# Altium footprint library BV100011_UniversalSlave.PcbLib: 72 footprints (part 4 of 5)
Each footprint in its own frame and in the unit in brackets; x right, y up, seen from the top. Pads: shape width x height; smd on the part's side, far side on the other; paste and mask are expansions set on the pad; w line width, h text height; cw(c..) or ccw(c..) is an arc to the next point about the centre after c.
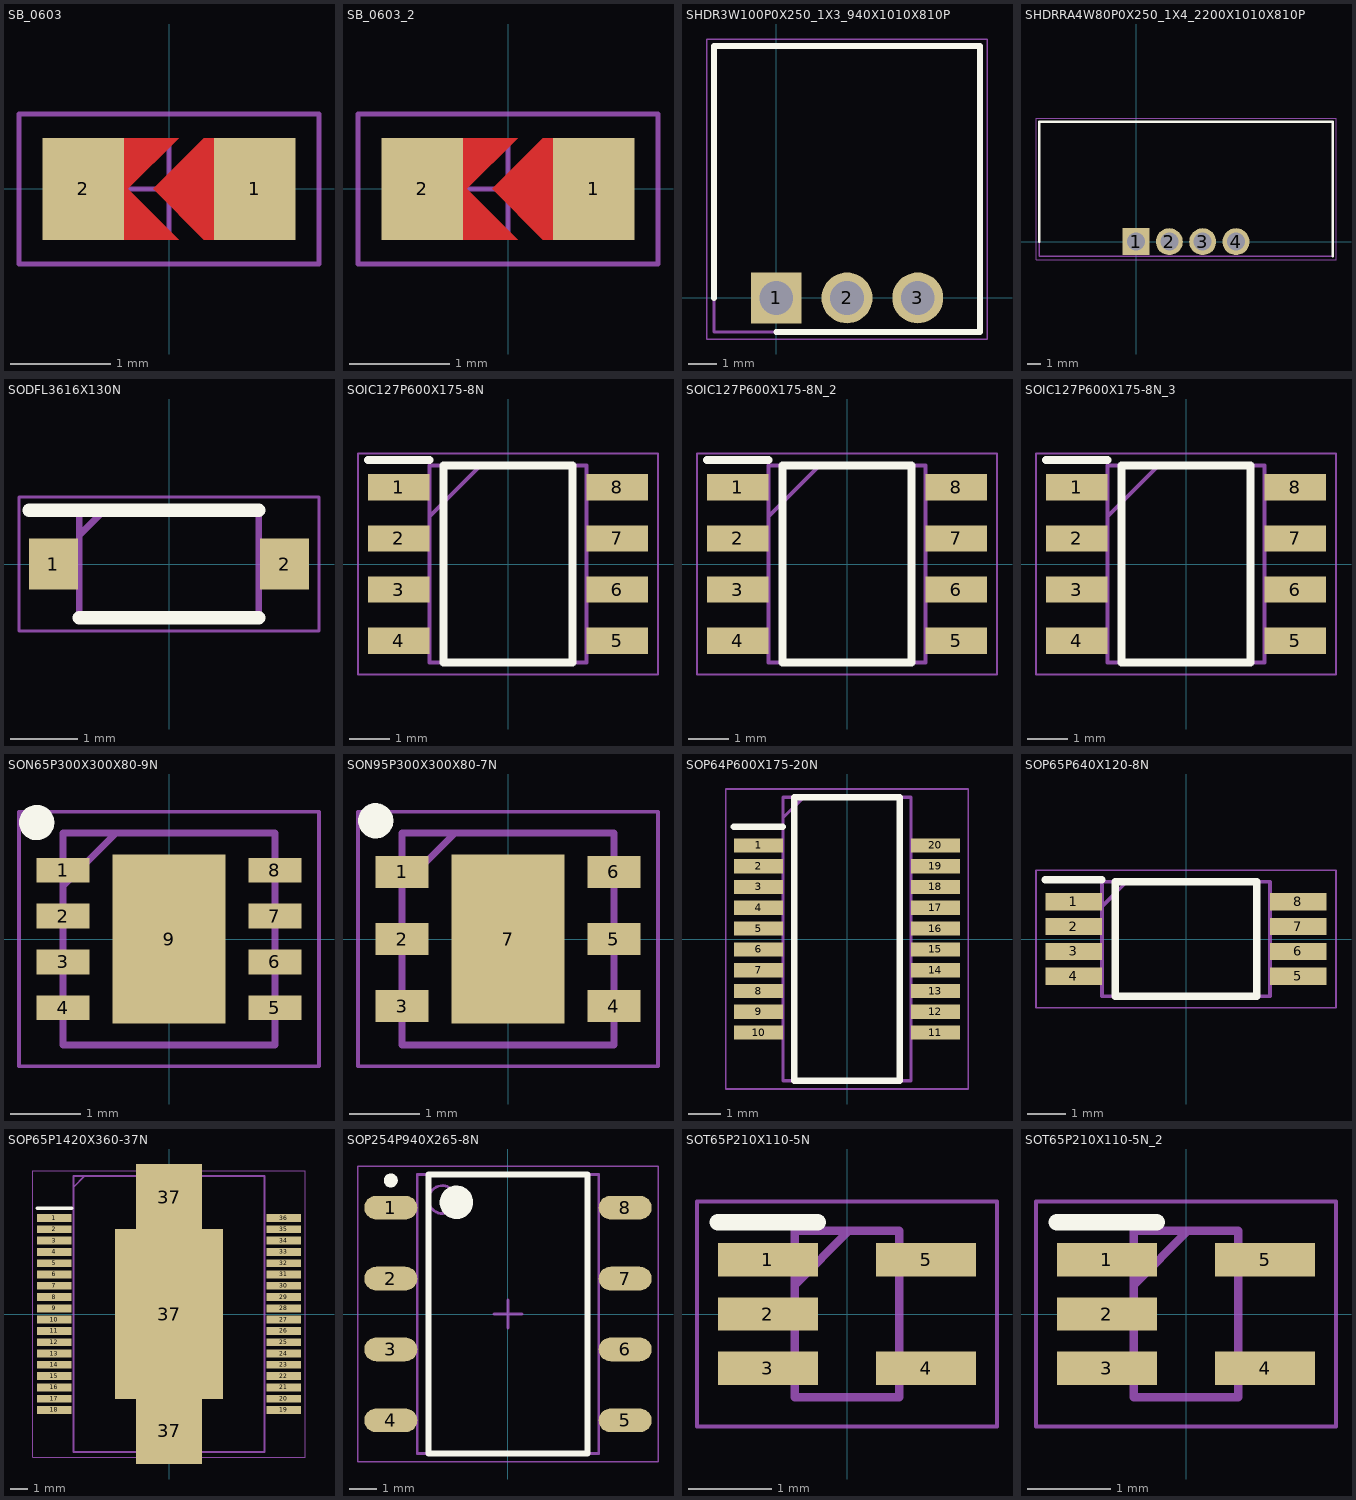
[diagram p3: the footprints below, top view; thin cyan lines are the x and y axes]

## SB_0603 [mil]
pads (2):
  rect 32x40 smd: 1(33.75,0) 2(-33.75,0)
Top Layer:
  region: -26.25,0 -16.25,0 3.75,-20 -26.25,-20
  region: -26.25,0 -16.25,0 3.75,20 -26.25,20
  region: 23.75,20 13.75,20 -6.25,0 13.75,-20 23.75,-20
Top Paste:
  region: -26.25,0 -16.25,0 3.75,-20 -26.25,-20
  region: -26.25,0 -16.25,0 3.75,20 -26.25,20
  region: 23.75,20 13.75,20 -6.25,0 13.75,-20 23.75,-20
Top Solder:
  region: -26.25,0 -12.25,0 11.75,-24 -26.25,-24
  region: -26.25,0 -12.25,0 11.75,24 -26.25,24
  region: 23.75,24 13.75,24 -10.25,0 13.75,-24 23.75,-24
Mechanical 15:
  lines w1.97: -18.7,0 18.7,0 ; 0,-18.7 0,18.7 ; -59.06,-29.53 59.06,-29.53 59.06,29.53 -59.06,29.53 -59.06,-29.53

## SB_0603_2 [mil]
pads (2):
  rect 32x40 smd: 1(33.75,0) 2(-33.75,0)
Top Layer:
  region: -26.25,0 -16.25,0 3.75,-20 -26.25,-20
  region: -26.25,0 -16.25,0 3.75,20 -26.25,20
  region: 23.75,20 13.75,20 -6.25,0 13.75,-20 23.75,-20
Top Paste:
  region: -26.25,0 -16.25,0 3.75,-20 -26.25,-20
  region: -26.25,0 -16.25,0 3.75,20 -26.25,20
  region: 23.75,20 13.75,20 -6.25,0 13.75,-20 23.75,-20
Top Solder:
  region: -26.25,0 -12.25,0 11.75,-24 -26.25,-24
  region: -26.25,0 -12.25,0 11.75,24 -26.25,24
  region: 23.75,24 13.75,24 -10.25,0 13.75,-24 23.75,-24
Mechanical 15:
  lines w1.97: -18.7,0 18.7,0 ; 0,-18.7 0,18.7 ; -59.06,-29.53 59.06,-29.53 59.06,29.53 -59.06,29.53 -59.06,-29.53

## SHDR3W100P0X250_1X3_940X1010X810P [mm]
pads (3):
  rect 1.8x1.8 hole 1.2: 1(0,0)
  round 1.8 hole 1.2: 2(2.5,0) 3(5,0)
Top Overlay:
  lines w0.2: -2.2,0 -2.2,8.9 7.2,8.9 7.2,-1.2 0,-1.2
Mechanical 13:
  lines w0.1: -2.2,-1.2 -2.2,8.9 7.2,8.9 7.2,-1.2 -2.2,-1.2
Mechanical 15:
  lines w0.05: -2.45,-1.45 -2.45,9.15 7.45,9.15 7.45,-1.45 -2.45,-1.45

## SHDRRA4W80P0X250_1X4_2200X1010X810P [mm]
pads (4):
  rect 2.025x2.025 hole 1.35: 1(0,0)
  round 2.025 hole 1.35: 2(2.5,0) 3(5,0) 4(7.5,0)
Top Overlay:
  lines w0.2: -7.25,0 -7.25,9 14.75,9 14.75,-1.1
Mechanical 13:
  lines w0.1: -7.25,-1.1 14.75,-1.1 14.75,9 -7.25,9 -7.25,-1.1
Mechanical 15:
  lines w0.05: -7.5,-1.35 -7.5,9.25 15,9.25 15,-1.35 -7.5,-1.35
3D body "691382040004.stp": height 8.1, standoff -3.5, extent -7.25,-1.1 14.75,9

## SODFL3616X130N [mm]
pads (2):
  rect 0.73x0.76 smd: 1(-1.725,0) 2(1.725,0)
Top Overlay:
  lines w0.2: -2.09,0.8 1.338,0.8 ; -1.338,-0.8 1.338,-0.8
Mechanical 13:
  lines w0.1: -1.338,0.435 -0.972,0.8 ; -1.338,-0.8 -1.338,0.8 1.338,0.8 1.338,-0.8 -1.338,-0.8
Mechanical 15:
  lines w0.05: -2.24,-1 -2.24,1 2.24,1 2.24,-1 -2.24,-1
3D body "BZT52-B10X.stp": height 1.3, standoff 0, extent -1.8,-0.8 1.8,0.8

## SOIC127P600X175-8N [mm]
pads (8):
  rect 1.525x0.65 smd: 1(-2.712,1.905) 2(-2.712,0.635) 3(-2.712,-0.635) 4(-2.712,-1.905) 5(2.712,-1.905) 6(2.712,-0.635) 7(2.712,0.635) 8(2.712,1.905)
Top Overlay:
  lines w0.2: -3.475,2.58 -1.95,2.58 ; -1.6,-2.45 -1.6,2.45 1.6,2.45 1.6,-2.45 -1.6,-2.45
Mechanical 13:
  lines w0.1: -1.95,1.18 -0.68,2.45 ; -1.95,-2.45 -1.95,2.45 1.95,2.45 1.95,-2.45 -1.95,-2.45
Mechanical 15:
  lines w0.05: -3.725,-2.75 -3.725,2.75 3.725,2.75 3.725,-2.75 -3.725,-2.75
3D body "NE555DR.stp": height 1.75, standoff 0, extent -3,-2.45 3,2.45

## SOIC127P600X175-8N_2 [mm]
pads (8):
  rect 1.525x0.65 smd: 1(-2.712,1.905) 2(-2.712,0.635) 3(-2.712,-0.635) 4(-2.712,-1.905) 5(2.712,-1.905) 6(2.712,-0.635) 7(2.712,0.635) 8(2.712,1.905)
Top Overlay:
  lines w0.2: -3.475,2.58 -1.95,2.58 ; -1.6,-2.45 -1.6,2.45 1.6,2.45 1.6,-2.45 -1.6,-2.45
Mechanical 13:
  lines w0.1: -1.95,1.18 -0.68,2.45 ; -1.95,-2.45 -1.95,2.45 1.95,2.45 1.95,-2.45 -1.95,-2.45
Mechanical 15:
  lines w0.05: -3.725,-2.75 -3.725,2.75 3.725,2.75 3.725,-2.75 -3.725,-2.75
3D body "MAX14789EGSA+.stp": height 1.75, standoff 0, extent -3,-2.45 3,2.45

## SOIC127P600X175-8N_3 [mm]
pads (8):
  rect 1.525x0.65 smd: 1(-2.712,1.905) 2(-2.712,0.635) 3(-2.712,-0.635) 4(-2.712,-1.905) 5(2.712,-1.905) 6(2.712,-0.635) 7(2.712,0.635) 8(2.712,1.905)
Top Overlay:
  lines w0.2: -3.475,2.58 -1.95,2.58 ; -1.6,-2.45 1.6,-2.45 1.6,2.45 -1.6,2.45 -1.6,-2.45
Mechanical 13:
  lines w0.1: -1.95,1.18 -0.68,2.45 ; -1.95,-2.45 1.95,-2.45 1.95,2.45 -1.95,2.45 -1.95,-2.45
Mechanical 15:
  lines w0.05: -3.725,-2.75 3.725,-2.75 3.725,2.75 -3.725,2.75 -3.725,-2.75
3D body "NE555DR.stp": height 1.75, standoff 0, extent -3,-2.45 3,2.45

## SON65P300X300X80-9N [mm]
pads (9):
  rect 0.75x0.35 smd: 1(-1.5,0.975) 2(-1.5,0.325) 3(-1.5,-0.325) 4(-1.5,-0.975) 5(1.5,-0.975) 6(1.5,-0.325) 7(1.5,0.325) 8(1.5,0.975)
  rect 1.6x2.4 smd: 9(0,0)
Top Overlay:
  circle w0.25: c-1.875,1.65 r0.125
Mechanical 13:
  lines w0.1: -1.5,0.75 -0.75,1.5 ; -1.5,-1.5 1.5,-1.5 1.5,1.5 -1.5,1.5 -1.5,-1.5
Mechanical 15:
  lines w0.05: -2.125,-1.8 2.125,-1.8 2.125,1.8 -2.125,1.8 -2.125,-1.8
3D body "MAX14759ETA+T.stp": height 0.8, standoff 0, extent -1.55,-1.5 1.55,1.5

## SON95P300X300X80-7N [mm]
pads (7):
  rect 0.75x0.45 smd: 1(-1.5,0.95) 2(-1.5,0) 3(-1.5,-0.95) 4(1.5,-0.95) 5(1.5,0) 6(1.5,0.95)
  rect 1.6x2.4 smd: 7(0,0)
Top Overlay:
  circle w0.25: c-1.875,1.675 r0.125
Mechanical 13:
  lines w0.1: -1.5,0.75 -0.75,1.5 ; -1.5,-1.5 1.5,-1.5 1.5,1.5 -1.5,1.5 -1.5,-1.5
Mechanical 15:
  lines w0.05: -2.125,-1.8 2.125,-1.8 2.125,1.8 -2.125,1.8 -2.125,-1.8
3D body "MAX14626ETT+T.stp": height 0.8, standoff 0, extent -1.55,-1.5 1.55,1.5

## SOP64P600X175-20N [mm]
pads (20):
  rect 1.495x0.435 smd: 1(-2.702,2.858) 2(-2.702,2.222) 3(-2.702,1.588) 4(-2.702,0.952) 5(-2.702,0.318) 6(-2.702,-0.318) 7(-2.702,-0.952) 8(-2.702,-1.588) 9(-2.702,-2.222) 10(-2.702,-2.858) 11(2.702,-2.858) 12(2.702,-2.222) 13(2.702,-1.588) 14(2.702,-0.952) 15(2.702,-0.318) 16(2.702,0.318) 17(2.702,0.952) 18(2.702,1.588) 19(2.702,2.222) 20(2.702,2.858)
Top Overlay:
  lines w0.2: -3.45,3.425 -1.955,3.425 ; -1.605,-4.33 -1.605,4.33 1.605,4.33 1.605,-4.33 -1.605,-4.33
Mechanical 13:
  lines w0.1: -1.955,3.695 -1.32,4.33 ; -1.955,-4.33 -1.955,4.33 1.955,4.33 1.955,-4.33 -1.955,-4.33
Mechanical 15:
  lines w0.05: -3.7,-4.58 -3.7,4.58 3.7,4.58 3.7,-4.58 -3.7,-4.58
3D body "SI8380P-IU.stp": height 1.75, standoff 0, extent -3,-4.33 3,4.33

## SOP65P640X120-8N [mm]
pads (8):
  rect 1.475x0.45 smd: 1(-2.938,0.975) 2(-2.938,0.325) 3(-2.938,-0.325) 4(-2.938,-0.975) 5(2.938,-0.975) 6(2.938,-0.325) 7(2.938,0.325) 8(2.938,0.975)
Top Overlay:
  lines w0.2: -3.675,1.55 -2.2,1.55 ; -1.85,-1.5 1.85,-1.5 1.85,1.5 -1.85,1.5 -1.85,-1.5
Mechanical 13:
  lines w0.1: -2.2,0.85 -1.55,1.5 ; -2.2,-1.5 2.2,-1.5 2.2,1.5 -2.2,1.5 -2.2,-1.5
Mechanical 15:
  lines w0.05: -3.925,-1.8 3.925,-1.8 3.925,1.8 -3.925,1.8 -3.925,-1.8
3D body "47L16-I_ST.stp": height 1.2, standoff 0, extent -3.2,-1.5 3.2,1.5

## SOP65P1420X360-37N [mm]
pads (39):
  rect 2x0.45 smd: 1(-6.6,5.525) 2(-6.6,4.875) 3(-6.6,4.225) 4(-6.6,3.575) 5(-6.6,2.925) 6(-6.6,2.275) 7(-6.6,1.625) 8(-6.6,0.975) 9(-6.6,0.325) 10(-6.6,-0.325) 11(-6.6,-0.975) 12(-6.6,-1.625) 13(-6.6,-2.275) 14(-6.6,-2.925) 15(-6.6,-3.575) 16(-6.6,-4.225) 17(-6.6,-4.875) 18(-6.6,-5.525) 19(6.6,-5.525) 20(6.6,-4.875) 21(6.6,-4.225) 22(6.6,-3.575) 23(6.6,-2.925) 24(6.6,-2.275) 25(6.6,-1.625) 26(6.6,-0.975) 27(6.6,-0.325) 28(6.6,0.325) 29(6.6,0.975) 30(6.6,1.625) 31(6.6,2.275) 32(6.6,2.925) 33(6.6,3.575) 34(6.6,4.225) 35(6.6,4.875) 36(6.6,5.525)
  rect 3.81x3.81 smd: 37(0,-6.731) 37(0,6.731)
  rect 6.2x9.8 smd: 37(0,0)
Top Overlay:
  lines w0.2: -7.6,6.1 -5.6,6.1
Mechanical 13:
  lines w0.1: -5.5,7.3 -4.85,7.95 ; -5.5,-7.95 5.5,-7.95 5.5,7.95 -5.5,7.95 -5.5,-7.95
Mechanical 15:
  lines w0.05: -7.85,-8.25 7.85,-8.25 7.85,8.25 -7.85,8.25 -7.85,-8.25
3D body "ISO8200B.stp": height 3.6, standoff 0, extent -7.1,-7.95 7.1,7.95

## SOP254P940X265-8N [mm]
pads (8):
  oval 1.9x0.85 smd: 1(-4.2,3.81) 2(-4.2,1.27) 3(-4.2,-1.27) 4(-4.2,-3.81) 5(4.2,-3.81) 6(4.2,-1.27) 7(4.2,1.27) 8(4.2,3.81)
Top Overlay:
  circle w0.6: c-1.85,4 r0.3
  circle w0.25: c-4.2,4.785 r0.125
  lines w0.2: -2.85,-5 2.85,-5 2.85,5 -2.85,5 -2.85,-5
Mechanical 13:
  circle w0.1: c-2.35,4.1 r0.5
  lines w0.1: -3.25,-5 3.25,-5 3.25,5 -3.25,5 -3.25,-5
Mechanical 15:
  lines w0.05: -5.375,-5.3 5.375,-5.3 5.375,5.3 -5.375,5.3 -5.375,-5.3
  lines w0.1: -0.5,0 0.5,0 ; 0,-0.5 0,0.5
3D body: height 2.65, standoff 0.1, extent -3.25,-5 3.25,5

## SOT65P210X110-5N [mm]
pads (5):
  rect 1.2x0.4 smd: 1(-0.95,0.65) 2(-0.95,0) 3(-0.95,-0.65) 4(0.95,-0.65) 5(0.95,0.65)
Top Overlay:
  lines w0.2: -1.55,1.1 -0.35,1.1
Mechanical 13:
  lines w0.1: -0.625,0.35 0.025,1 ; -0.625,-1 -0.625,1 0.625,1 0.625,-1 -0.625,-1
Mechanical 15:
  lines w0.05: -1.8,-1.35 -1.8,1.35 1.8,1.35 1.8,-1.35 -1.8,-1.35
3D body "ESDALC6V1W5.stp": height 1.1, standoff 0, extent -1.05,-1 1.05,1

## SOT65P210X110-5N_2 [mm]
pads (5):
  rect 1.2x0.4 smd: 1(-0.95,0.65) 2(-0.95,0) 3(-0.95,-0.65) 4(0.95,-0.65) 5(0.95,0.65)
Top Overlay:
  lines w0.2: -1.55,1.1 -0.35,1.1
Mechanical 13:
  lines w0.1: -0.625,0.35 0.025,1 ; -0.625,-1 0.625,-1 0.625,1 -0.625,1 -0.625,-1
Mechanical 15:
  lines w0.05: -1.8,-1.35 1.8,-1.35 1.8,1.35 -1.8,1.35 -1.8,-1.35
3D body "ESDALC6V1W5.stp": height 1.1, standoff 0, extent -1.05,-1 1.05,1